# EAGLE library part DB15-F_22MM (library VGA-DIP)
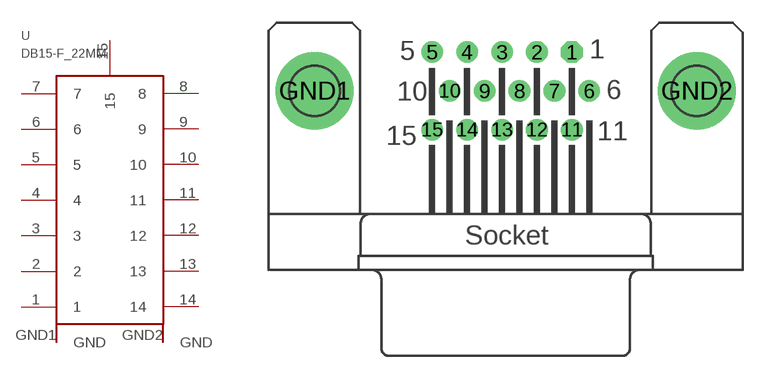
[diagram p1: symbol with the pads of DB15-F_22MM; footprint DB15-F_22MM]

Designator prefix -

## DB15-F_22MM  [DB15-F_22MM]
1  1
2  2
3  3
4  4
5  5
6  6
7  7
8  8
9  9
10  10
11  11
12  12
13  13
14  14
15  15
GND1  GND
GND2  GND

## Footprint DB15-F_22MM (pad centres in mm)
drill 0.9 octagon: 1 4.329,6.35
drill 0.9: 2 2.043,6.35; 3 -0.243,6.35; 4 -2.529,6.35; 5 -4.815,6.35; 6 5.472,3.81; 7 3.186,3.81; 8 0.9,3.81; 9 -1.386,3.81; 10 -3.672,3.81; 11 4.329,1.27; 12 2.043,1.27; 13 -0.243,1.27; 14 -2.529,1.27; 15 -4.815,1.27
drill 3.302 pad 5.08: GND1 -12.497,3.81; GND2 12.497,3.81